# EAGLE library part DF40C-60DP (library sf-keyglove)
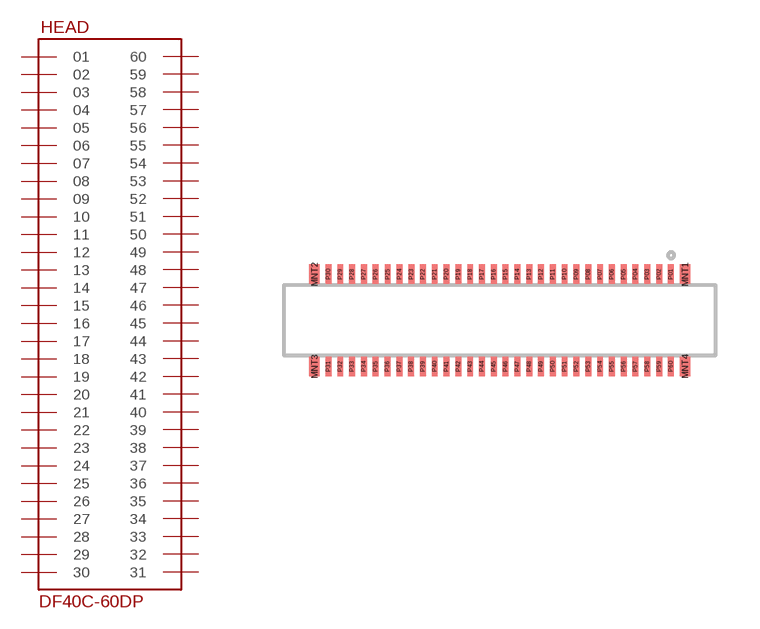
[diagram p10: symbol with the pads of DF40C-60DP; footprint DF40C-60DP]

Designator prefix HEAD

## DF40C-60DP  [DF40C-60DP]
P01  01
P02  02
P03  03
P04  04
P05  05
P06  06
P07  07
P08  08
P09  09
P10  10
P11  11
P12  12
P13  13
P14  14
P15  15
P16  16
P17  17
P18  18
P19  19
P20  20
P21  21
P22  22
P23  23
P24  24
P25  25
P26  26
P27  27
P28  28
P29  29
P30  30
P31  31
P32  32
P33  33
P34  34
P35  35
P36  36
P37  37
P38  38
P39  39
P40  40
P41  41
P42  42
P43  43
P44  44
P45  45
P46  46
P47  47
P48  48
P49  49
P50  50
P51  51
P52  52
P53  53
P54  54
P55  55
P56  56
P57  57
P58  58
P59  59
P60  60

## Footprint DF40C-60DP (pad centres in mm)
smd 0.35 x 0.66: MNT1 6.275,1.56; MNT2 -6.275,1.56; MNT3 -6.275,-1.56; MNT4 6.275,-1.56
smd 0.2 x 0.66: P01 5.8,1.56; P02 5.4,1.56; P03 5,1.56; P04 4.6,1.56; P05 4.2,1.56; P06 3.8,1.56; P07 3.4,1.56; P08 3,1.56; P09 2.6,1.56; P10 2.2,1.56; P11 1.8,1.56; P12 1.4,1.56; P13 1,1.56; P14 0.6,1.56; P15 0.2,1.56; P16 -0.2,1.56; P17 -0.6,1.56; P18 -1,1.56; P19 -1.4,1.56; P20 -1.8,1.56; P21 -2.2,1.56; P22 -2.6,1.56; P23 -2.99,1.56; P24 -3.39,1.56; P25 -3.79,1.56; P26 -4.2,1.56; P27 -4.6,1.56; P28 -5,1.56; P29 -5.4,1.56; P30 -5.8,1.56; P31 -5.8,-1.56; P32 -5.4,-1.56; P33 -5,-1.56; P34 -4.6,-1.56; P35 -4.2,-1.56; P36 -3.8,-1.56; P37 -3.4,-1.56; P38 -3,-1.56; P39 -2.6,-1.56; P40 -2.2,-1.56; P41 -1.8,-1.56; P42 -1.4,-1.56; P43 -1,-1.56; P44 -0.6,-1.56; P45 -0.2,-1.56; P46 0.2,-1.56; P47 0.6,-1.56; P48 1,-1.56; P49 1.4,-1.56; P50 1.8,-1.56; P51 2.2,-1.56; P52 2.6,-1.56; P53 3,-1.56; P54 3.4,-1.56; P55 3.8,-1.56; P56 4.2,-1.56; P57 4.6,-1.56; P58 5,-1.56; P59 5.4,-1.56; P60 5.8,-1.56